# Altium footprint library E2S_E2S_015_V1.PcbLib: 1 footprints
Each footprint in its own frame and in the unit in brackets; x right, y up, seen from the top. Pads: shape width x height; smd on the part's side, far side on the other; paste and mask are expansions set on the pad; w line width, h text height; cw(c..) or ccw(c..) is an arc to the next point about the centre after c.
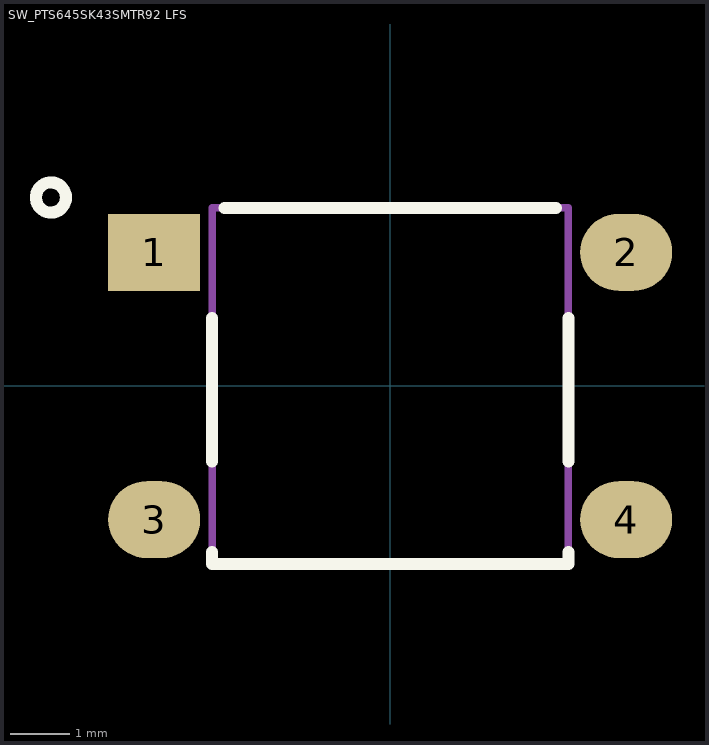
[diagram p0: the footprint, top view; thin cyan lines are the x and y axes]

## SW_PTS645SK43SMTR92 LFS [mm]
height 4.4
pads (4):
  rect 1.55x1.3 smd: 1(-3.975,2.25)
  oval 1.55x1.3 smd: 2(3.975,2.25) 3(-3.975,-2.25) 4(3.975,-2.25)
Top Overlay:
  circle w0.203: c-5.715,3.175 r0.254
  lines w0.203: -3,-2.794 -3,-3 3,-3 3,-2.794 ; -3,-1.27 -3,1.143 ; -2.794,3 2.794,3 ; 3,-1.27 3,1.143
Mechanical 1:
  text "'.Designator'" at 0,0 h1.52
Mechanical 15:
  circle w0.127: c-3.975,2.25 r0.254
  lines w0.127: -3,-3 -3,3 3,3 3,-3 -3,-3
3D body: height 3.45, standoff 0, extent -3,-3 3,3
3D body: height 4.4, standoff 3.45, extent -0.992,-0.998 1,0.998